# EAGLE library part LM2574N-5G (library on-semiconductor-01)
Switching Regulator
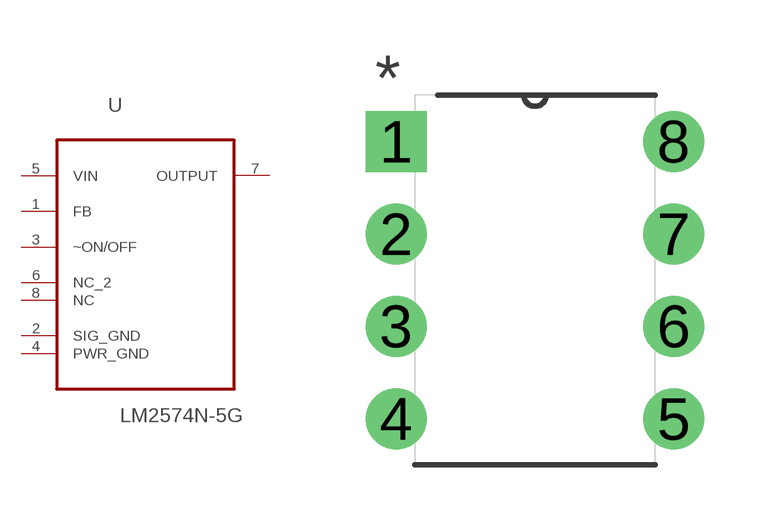
[diagram p34: symbol with the pads of DIP254P762X445-8; footprint DIP254P762X445-8]

Designator prefix U

## LM2574N-5G (MPN: LM2574N-5G; OC_FARNELL: 1460659; OC_NEWARK: 70K2987; PACKAGE: PDIP-8; SUPPLIER: ON SEMICONDUCTOR)  [DIP254P762X445-8]
1  FB
2  SIG_GND  pas
3  ~ON/OFF  in
4  PWR_GND  pas
5  VIN  pwr
6  NC_2  nc
7  OUTPUT  out
8  NC  nc

## Footprint DIP254P762X445-8 (pad centres in mm)
drill 1.118 square: 1 -7.62,7.62
drill 1.118: 2 -7.62,5.08; 3 -7.62,2.54; 4 -7.62,0; 5 0,0; 6 0,2.54; 7 0,5.08; 8 0,7.62